# Altium footprint library PQFN_5x6.PcbLib: 1 footprints
Each footprint in its own frame and in the unit in brackets; x right, y up, seen from the top. Pads: shape width x height; smd on the part's side, far side on the other; paste and mask are expansions set on the pad; w line width, h text height; cw(c..) or ccw(c..) is an arc to the next point about the centre after c.
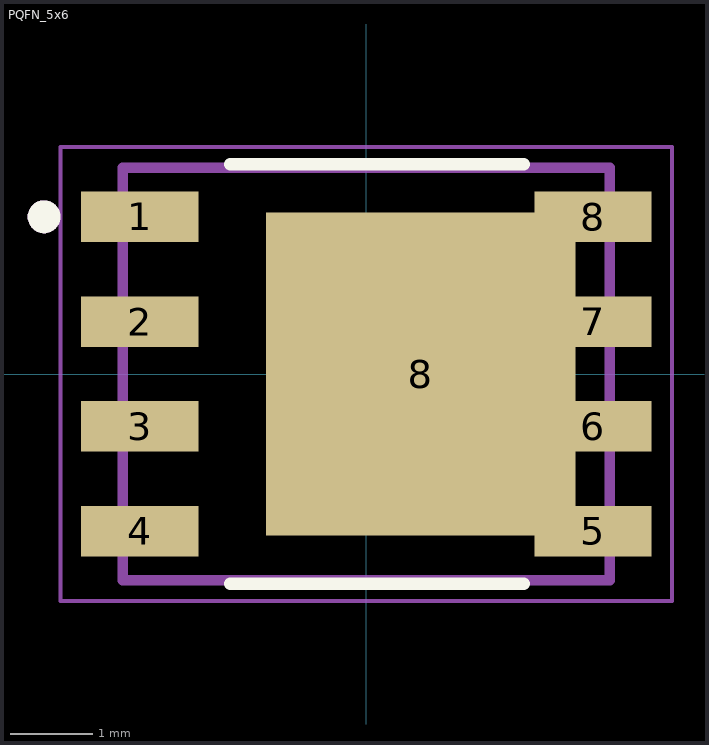
[diagram p0: the footprint, top view; thin cyan lines are the x and y axes]

## PQFN_5x6 [mm]
pads (9):
  rect 1.42x0.61 smd: 1(-2.745,1.905) 2(-2.745,0.635) 3(-2.745,-0.635) 4(-2.745,-1.905) 5(2.745,-1.905) 6(2.745,-0.635) 7(2.745,0.635) 8(2.745,1.905)
  rect 3.75x3.91 smd paste-3: 8(0.66,0)
Top Overlay:
  circle w0.2: c-3.905,1.905 r0.1
  lines w0.15: -1.651,-2.54 1.905,-2.54 ; -1.651,2.54 1.905,2.54
Top Paste:
  region: 1.685,0.175 0.585,0.175 0.585,1.615 1.685,1.615
  region: 0.235,0.175 -0.865,0.175 -0.865,1.615 0.235,1.615
  region: 0.235,-1.615 -0.865,-1.615 -0.865,-0.175 0.235,-0.175
  region: 1.685,-1.615 0.585,-1.615 0.585,-0.175 1.685,-0.175
Mechanical 13:
  circle w0.2: c-3.905,1.905 r0.1
  lines w0.127: -2.95,-2.5 -2.95,2.5 2.95,2.5 2.95,-2.5 -2.95,-2.5
Mechanical 15:
  lines w0.05: -3.705,-2.75 -3.705,2.75 3.705,2.75 3.705,-2.75 -3.705,-2.75
3D body "step_temp.STEP": height 1.17, standoff 0, extent -3.037,-2.512 3.037,2.512